# EAGLE library part ADS7813P (library burr-brown)
16-Bit 40 kSPS ADC
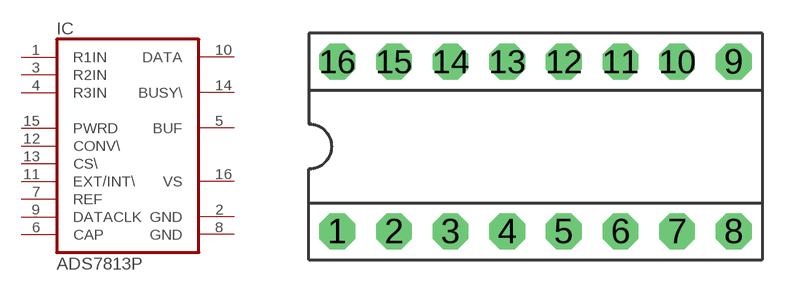
[diagram p51: symbol with the pads of DIP-16; footprint DIP-16]

Designator prefix IC

## ADS7813P  [DIP-16]
1  R1IN  in
2  GND  pwr
3  R2IN  in
4  R3IN  in
5  BUF  out
6  CAP  pas
7  REF
8  GND  pwr
9  DATACLK
10  DATA  out
11  EXT/INT\  in
12  CONV\  in
13  CS\  in
14  BUSY\  out
15  PWRD  in
16  VS  pwr

## Footprint DIP-16 (pad centres in mm)
drill 0.813 pad 1.6 octagon: 1 -8.89,-3.81; 2 -6.35,-3.81; 3 -3.81,-3.81; 4 -1.27,-3.81; 5 1.27,-3.81; 6 3.81,-3.81; 7 6.35,-3.81; 8 8.89,-3.81; 9 8.89,3.81; 10 6.35,3.81; 11 3.81,3.81; 12 1.27,3.81; 13 -1.27,3.81; 14 -3.81,3.81; 15 -6.35,3.81; 16 -8.89,3.81